# Altium schematic symbol library Microver.SchLib: 988 symbols (part 2 of 17)
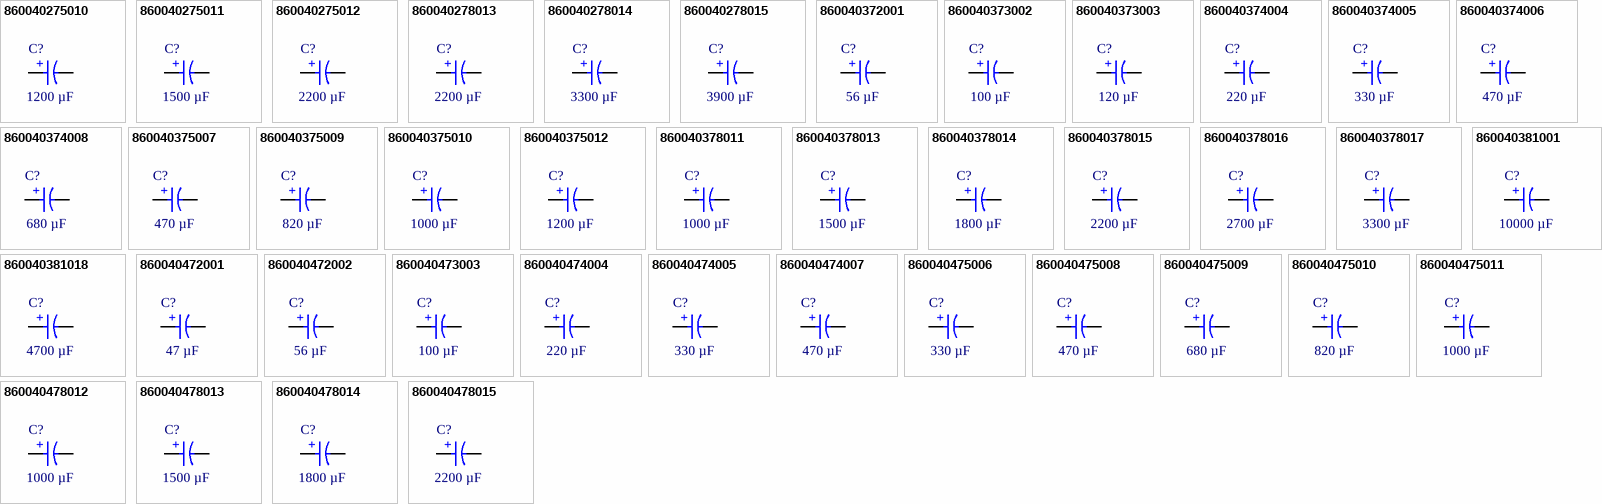
[diagram p30: symbols 860040275010 to 860040478015]

## 860040472001
designator C?, comment 47 µF
WCAP-ATUL Aluminum Electrolytic Capacitor, Radial, THT, D5 x H11 mm, 47 µF, 25 V; Manufacturer Part Number: 860040472001; Manufacturer: Wurth Elektronik; Capacitance Tolerance: 20%; Dissipation Factor: 14%; Endurance: 5000 h; Leakage Current: 11.75 µA; Rated Voltage (DC): 25 V; Ripple Current: 160 mA; Category: Aluminum Electrolytic Capacitors; Match Code: WCAP-ATUL; ComponentLink1Description: Website Link; ComponentLink1URL: https://www.we-online.com/redexpert/article/860040472001?ad; ComponentLink2Description: Datasheet Link; ComponentLink2URL: https://www.we-online.com/redexpert/spec/860040472001?ad; Mount: Through Hole; Min Operating Temperature: -40 °C; Max Operating Temperature: 105 °C; Packaging: Ammo Pack; Height: 11 mm; Diameter: 5 mm; Capacitance: 47 µF
footprint WCAP-ATUL_D5H11
simulation model 860040472001_47uF
pins: 1 P, 2 N
text: +

## 860040472002
designator C?, comment 56 µF
WCAP-ATUL Aluminum Electrolytic Capacitor, Radial, THT, D5 x H11 mm, 56 µF, 25 V; Manufacturer Part Number: 860040472002; Manufacturer: Wurth Elektronik; Capacitance Tolerance: 20%; Dissipation Factor: 14%; Endurance: 5000 h; Leakage Current: 14 µA; Rated Voltage (DC): 25 V; Ripple Current: 240 mA; Category: Aluminum Electrolytic Capacitors; Match Code: WCAP-ATUL; ComponentLink1Description: Website Link; ComponentLink1URL: https://www.we-online.com/redexpert/article/860040472002?ad; ComponentLink2Description: Datasheet Link; ComponentLink2URL: https://www.we-online.com/redexpert/spec/860040472002?ad; Mount: Through Hole; Min Operating Temperature: -40 °C; Max Operating Temperature: 105 °C; Packaging: Ammo Pack; Height: 11 mm; Diameter: 5 mm; Capacitance: 56 µF
footprint WCAP-ATUL_D5H11
simulation model 860040472002_56uF
pins: 1 P, 2 N
text: +

## 860040473003
designator C?, comment 100 µF
WCAP-ATUL Aluminum Electrolytic Capacitor, Radial, THT, D6.3 x H11 mm, 100 µF, 25 V; Manufacturer Part Number: 860040473003; Manufacturer: Wurth Elektronik; Capacitance Tolerance: 20%; Dissipation Factor: 14%; Endurance: 5000 h; Leakage Current: 25 µA; Rated Voltage (DC): 25 V; Ripple Current: 350 mA; Category: Aluminum Electrolytic Capacitors; Match Code: WCAP-ATUL; ComponentLink1Description: Website Link; ComponentLink1URL: https://www.we-online.com/redexpert/article/860040473003?ad; ComponentLink2Description: Datasheet Link; ComponentLink2URL: https://www.we-online.com/redexpert/spec/860040473003?ad; Mount: Through Hole; Min Operating Temperature: -40 °C; Max Operating Temperature: 105 °C; Packaging: Ammo Pack; Height: 11 mm; Diameter: 6.3 mm; Capacitance: 100 µF
footprint WCAP-ATUL_D6.3H11
simulation model 860040473003_100uF
pins: 1 P, 2 N
text: +

## 860040474004
designator C?, comment 220 µF
WCAP-ATUL Aluminum Electrolytic Capacitor, Radial, THT, D8 x H11.5 mm, 220 µF, 25 V; Manufacturer Part Number: 860040474004; Manufacturer: Wurth Elektronik; Capacitance Tolerance: 20%; Dissipation Factor: 14%; Endurance: 7000 h; Leakage Current: 55 µA; Rated Voltage (DC): 25 V; Ripple Current: 590 mA; Category: Aluminum Electrolytic Capacitors; Match Code: WCAP-ATUL; ComponentLink1Description: Website Link; ComponentLink1URL: https://www.we-online.com/redexpert/article/860040474004?ad; ComponentLink2Description: Datasheet Link; ComponentLink2URL: https://www.we-online.com/redexpert/spec/860040474004?ad; Mount: Through Hole; Min Operating Temperature: -40 °C; Max Operating Temperature: 105 °C; Packaging: Ammo Pack; Height: 11.5 mm; Diameter: 8 mm; Capacitance: 220 µF
footprint WCAP-ATUL_D8H11.5
simulation model 860040474004_220uF
pins: 1 P, 2 N
text: +

## 860040474005
designator C?, comment 330 µF
WCAP-ATUL Aluminum Electrolytic Capacitor, Radial, THT, D8 x H16 mm, 330 µF, 25 V; Manufacturer Part Number: 860040474005; Manufacturer: Wurth Elektronik; Capacitance Tolerance: 20%; Dissipation Factor: 14%; Endurance: 7000 h; Leakage Current: 82.5 µA; Rated Voltage (DC): 25 V; Ripple Current: 810 mA; Category: Aluminum Electrolytic Capacitors; Match Code: WCAP-ATUL; ComponentLink1Description: Website Link; ComponentLink1URL: https://www.we-online.com/redexpert/article/860040474005?ad; ComponentLink2Description: Datasheet Link; ComponentLink2URL: https://www.we-online.com/redexpert/spec/860040474005?ad; Mount: Through Hole; Min Operating Temperature: -40 °C; Max Operating Temperature: 105 °C; Packaging: Ammo Pack; Height: 16 mm; Diameter: 8 mm; Capacitance: 330 µF
footprint WCAP-ATUL_D8H16
simulation model 860040474005_330uF
pins: 1 P, 2 N
text: +

## 860040474007
designator C?, comment 470 µF
WCAP-ATUL Aluminum Electrolytic Capacitor, Radial, THT, D8 x H20 mm, 470 µF, 25 V; Manufacturer Part Number: 860040474007; Manufacturer: Wurth Elektronik; Capacitance Tolerance: 20%; Dissipation Factor: 14%; Endurance: 7000 h; Leakage Current: 117.5 µA; Rated Voltage (DC): 25 V; Ripple Current: 1020 mA; Category: Aluminum Electrolytic Capacitors; Match Code: WCAP-ATUL; ComponentLink1Description: Website Link; ComponentLink1URL: https://www.we-online.com/redexpert/article/860040474007?ad; ComponentLink2Description: Datasheet Link; ComponentLink2URL: https://www.we-online.com/redexpert/spec/860040474007?ad; Mount: Through Hole; Min Operating Temperature: -40 °C; Max Operating Temperature: 105 °C; Packaging: Ammo Pack; Height: 20 mm; Diameter: 8 mm; Capacitance: 470 µF
footprint WCAP-ATUL_D8H20
simulation model 860040474007_470uF
pins: 1 P, 2 N
text: +

## 860040475006
designator C?, comment 330 µF
WCAP-ATUL Aluminum Electrolytic Capacitor, Radial, THT, D10 x H12.5 mm, 330 µF, 25 V; Manufacturer Part Number: 860040475006; Manufacturer: Wurth Elektronik; Capacitance Tolerance: 20%; Dissipation Factor: 14%; Endurance: 7000 h; Leakage Current: 82.5 µA; Rated Voltage (DC): 25 V; Ripple Current: 826 mA; Category: Aluminum Electrolytic Capacitors; Match Code: WCAP-ATUL; ComponentLink1Description: Website Link; ComponentLink1URL: https://www.we-online.com/redexpert/article/860040475006?ad; ComponentLink2Description: Datasheet Link; ComponentLink2URL: https://www.we-online.com/redexpert/spec/860040475006?ad; Mount: Through Hole; Min Operating Temperature: -40 °C; Max Operating Temperature: 105 °C; Packaging: Ammo Pack; Height: 12.5 mm; Diameter: 10 mm; Capacitance: 330 µF
footprint WCAP-ATUL_D10H12.5
simulation model 860040475006_330uF
pins: 1 P, 2 N
text: +

## 860040475008
designator C?, comment 470 µF
WCAP-ATUL Aluminum Electrolytic Capacitor, Radial, THT, D10 x H16 mm, 470 µF, 25 V; Manufacturer Part Number: 860040475008; Manufacturer: Wurth Elektronik; Capacitance Tolerance: 20%; Dissipation Factor: 14%; Endurance: 7000 h; Leakage Current: 117.5 µA; Rated Voltage (DC): 25 V; Ripple Current: 1210 mA; Category: Aluminum Electrolytic Capacitors; Match Code: WCAP-ATUL; ComponentLink1Description: Website Link; ComponentLink1URL: https://www.we-online.com/redexpert/article/860040475008?ad; ComponentLink2Description: Datasheet Link; ComponentLink2URL: https://www.we-online.com/redexpert/spec/860040475008?ad; Mount: Through Hole; Min Operating Temperature: -40 °C; Max Operating Temperature: 105 °C; Packaging: Ammo Pack; Height: 16 mm; Diameter: 10 mm; Capacitance: 470 µF
footprint WCAP-ATUL_D10H16
simulation model 860040475008_470uF
pins: 1 P, 2 N
text: +

## 860040475009
designator C?, comment 680 µF
WCAP-ATUL Aluminum Electrolytic Capacitor, Radial, THT, D10 x H20 mm, 680 µF, 25 V; Manufacturer Part Number: 860040475009; Manufacturer: Wurth Elektronik; Capacitance Tolerance: 20%; Dissipation Factor: 14%; Endurance: 7000 h; Leakage Current: 170 µA; Rated Voltage (DC): 25 V; Ripple Current: 1400 mA; Category: Aluminum Electrolytic Capacitors; Match Code: WCAP-ATUL; ComponentLink1Description: Website Link; ComponentLink1URL: https://www.we-online.com/redexpert/article/860040475009?ad; ComponentLink2Description: Datasheet Link; ComponentLink2URL: https://www.we-online.com/redexpert/spec/860040475009?ad; Mount: Through Hole; Min Operating Temperature: -40 °C; Max Operating Temperature: 105 °C; Packaging: Ammo Pack; Height: 20 mm; Diameter: 10 mm; Capacitance: 680 µF
footprint WCAP-ATUL_D10H20
simulation model 860040475009_680uF
pins: 1 P, 2 N
text: +

## 860040475010
designator C?, comment 820 µF
WCAP-ATUL Aluminum Electrolytic Capacitor, Radial, THT, D10 x H25 mm, 820 µF, 25 V; Manufacturer Part Number: 860040475010; Manufacturer: Wurth Elektronik; Capacitance Tolerance: 20%; Dissipation Factor: 14%; Endurance: 7000 h; Leakage Current: 205 µA; Rated Voltage (DC): 25 V; Ripple Current: 1580 mA; Category: Aluminum Electrolytic Capacitors; Match Code: WCAP-ATUL; ComponentLink1Description: Website Link; ComponentLink1URL: https://www.we-online.com/redexpert/article/860040475010?ad; ComponentLink2Description: Datasheet Link; ComponentLink2URL: https://www.we-online.com/redexpert/spec/860040475010?ad; Mount: Through Hole; Min Operating Temperature: -40 °C; Max Operating Temperature: 105 °C; Packaging: Ammo Pack; Height: 25 mm; Diameter: 10 mm; Capacitance: 820 µF
footprint WCAP-ATUL_D10H25
simulation model 860040475010_820uF
pins: 1 P, 2 N
text: +

## 860040475011
designator C?, comment 1000 µF
WCAP-ATUL Aluminum Electrolytic Capacitor, Radial, THT, D10 x H30 mm, 1000 µF, 25 V; Manufacturer Part Number: 860040475011; Manufacturer: Wurth Elektronik; Capacitance Tolerance: 20%; Dissipation Factor: 14%; Endurance: 7000 h; Leakage Current: 250 µA; Rated Voltage (DC): 25 V; Ripple Current: 1820 mA; Category: Aluminum Electrolytic Capacitors; Match Code: WCAP-ATUL; ComponentLink1Description: Website Link; ComponentLink1URL: https://www.we-online.com/redexpert/article/860040475011?ad; ComponentLink2Description: Datasheet Link; ComponentLink2URL: https://www.we-online.com/redexpert/spec/860040475011?ad; Mount: Through Hole; Min Operating Temperature: -40 °C; Max Operating Temperature: 105 °C; Packaging: Ammo Pack; Height: 30 mm; Diameter: 10 mm; Capacitance: 1000 µF
footprint WCAP-ATUL_D10H30
simulation model 860040475011_1mF
pins: 1 P, 2 N
text: +

## 860040478012
designator C?, comment 1000 µF
WCAP-ATUL Aluminum Electrolytic Capacitor, Radial, THT, D13 x H20 mm, 1000 µF, 25 V; Manufacturer Part Number: 860040478012; Manufacturer: Wurth Elektronik; Capacitance Tolerance: 20%; Dissipation Factor: 14%; Endurance: 10000 h; Leakage Current: 250 µA; Rated Voltage (DC): 25 V; Ripple Current: 1800 mA; Category: Aluminum Electrolytic Capacitors; Match Code: WCAP-ATUL; ComponentLink1Description: Website Link; ComponentLink1URL: https://www.we-online.com/redexpert/article/860040478012?ad; ComponentLink2Description: Datasheet Link; ComponentLink2URL: https://www.we-online.com/redexpert/spec/860040478012?ad; Mount: Through Hole; Min Operating Temperature: -40 °C; Max Operating Temperature: 105 °C; Packaging: Ammo Pack; Height: 20 mm; Diameter: 13 mm; Capacitance: 1000 µF
footprint WCAP-ATUL_D13H20
simulation model 860040478012_1mF
pins: 1 P, 2 N
text: +

## 860040478013
designator C?, comment 1500 µF
WCAP-ATUL Aluminum Electrolytic Capacitor, Radial, THT, D13 x H25 mm, 1500 µF, 25 V; Manufacturer Part Number: 860040478013; Manufacturer: Wurth Elektronik; Capacitance Tolerance: 20%; Dissipation Factor: 14%; Endurance: 10000 h; Leakage Current: 375 µA; Rated Voltage (DC): 25 V; Ripple Current: 2240 mA; Category: Aluminum Electrolytic Capacitors; Match Code: WCAP-ATUL; ComponentLink1Description: Website Link; ComponentLink1URL: https://www.we-online.com/redexpert/article/860040478013?ad; ComponentLink2Description: Datasheet Link; ComponentLink2URL: https://www.we-online.com/redexpert/spec/860040478013?ad; Mount: Through Hole; Min Operating Temperature: -40 °C; Max Operating Temperature: 105 °C; Packaging: Ammo Pack; Height: 25 mm; Diameter: 13 mm; Capacitance: 1500 µF
footprint WCAP-ATUL_D13H25
simulation model 860040478013_1.5mF
pins: 1 P, 2 N
text: +

## 860040478014
designator C?, comment 1800 µF
WCAP-ATUL Aluminum Electrolytic Capacitor, Radial, THT, D13 x H30 mm, 1800 µF, 25 V; Manufacturer Part Number: 860040478014; Manufacturer: Wurth Elektronik; Capacitance Tolerance: 20%; Dissipation Factor: 14%; Endurance: 10000 h; Leakage Current: 450 µA; Rated Voltage (DC): 25 V; Ripple Current: 2640 mA; Category: Aluminum Electrolytic Capacitors; Match Code: WCAP-ATUL; ComponentLink1Description: Website Link; ComponentLink1URL: https://www.we-online.com/redexpert/article/860040478014?ad; ComponentLink2Description: Datasheet Link; ComponentLink2URL: https://www.we-online.com/redexpert/spec/860040478014?ad; Mount: Through Hole; Min Operating Temperature: -40 °C; Max Operating Temperature: 105 °C; Packaging: Ammo Pack; Height: 30 mm; Diameter: 13 mm; Capacitance: 1800 µF
footprint WCAP-ATUL_D13H30
simulation model 860040478014_1.8mF
pins: 1 P, 2 N
text: +

## 860040478015
designator C?, comment 2200 µF
WCAP-ATUL Aluminum Electrolytic Capacitor, Radial, THT, D13 x H35 mm, 2200 µF, 25 V; Manufacturer Part Number: 860040478015; Manufacturer: Wurth Elektronik; Capacitance Tolerance: 20%; Dissipation Factor: 14%; Endurance: 10000 h; Leakage Current: 550 µA; Rated Voltage (DC): 25 V; Ripple Current: 2880 mA; Category: Aluminum Electrolytic Capacitors; Match Code: WCAP-ATUL; ComponentLink1Description: Website Link; ComponentLink1URL: https://www.we-online.com/redexpert/article/860040478015?ad; ComponentLink2Description: Datasheet Link; ComponentLink2URL: https://www.we-online.com/redexpert/spec/860040478015?ad; Mount: Through Hole; Min Operating Temperature: -40 °C; Max Operating Temperature: 105 °C; Packaging: Ammo Pack; Height: 35 mm; Diameter: 13 mm; Capacitance: 2200 µF
footprint WCAP-ATUL_D13H35
simulation model 860040478015_2.2mF
pins: 1 P, 2 N
text: +

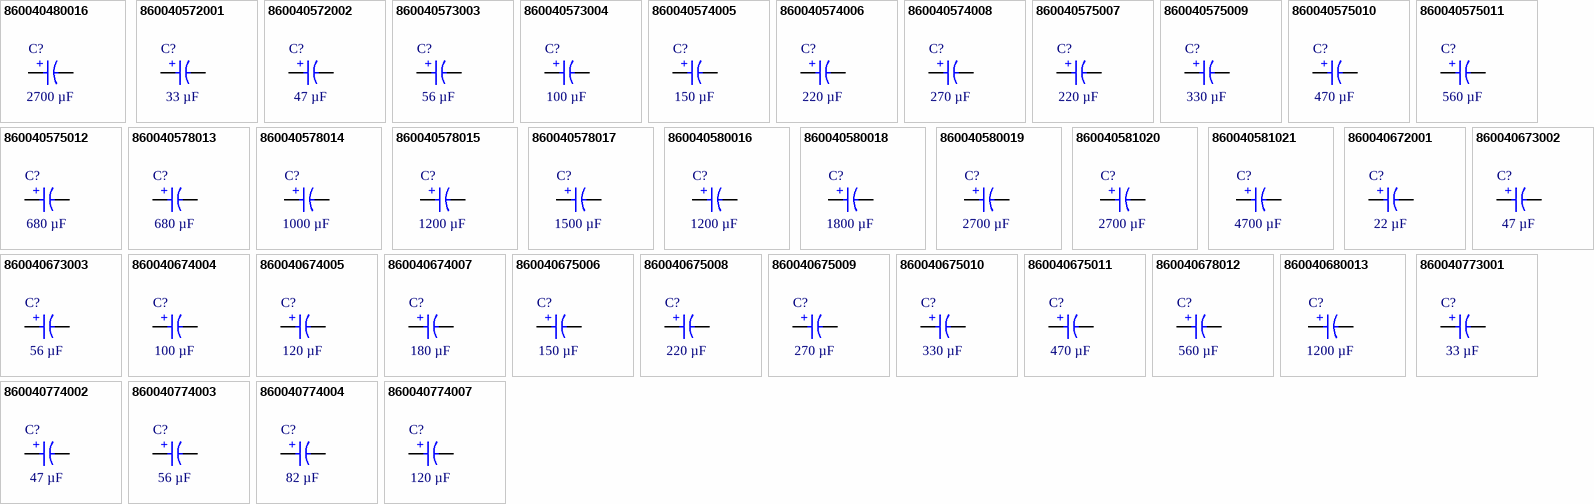
[diagram p2: symbols 860040480016 to 860040774007]

## 860040480016
designator C?, comment 2700 µF
WCAP-ATUL Aluminum Electrolytic Capacitor, Radial, THT, D16 x H25 mm, 2700 µF, 25 V; Manufacturer Part Number: 860040480016; Manufacturer: Wurth Elektronik; Capacitance Tolerance: 20%; Dissipation Factor: 14%; Endurance: 10000 h; Leakage Current: 675 µA; Rated Voltage (DC): 25 V; Ripple Current: 2820 mA; Category: Aluminum Electrolytic Capacitors; Match Code: WCAP-ATUL; ComponentLink1Description: Website Link; ComponentLink1URL: https://www.we-online.com/redexpert/article/860040480016?ad; ComponentLink2Description: Datasheet Link; ComponentLink2URL: https://www.we-online.com/redexpert/spec/860040480016?ad; Mount: Through Hole; Min Operating Temperature: -40 °C; Max Operating Temperature: 105 °C; Packaging: Ammo Pack; Height: 25 mm; Diameter: 16 mm; Capacitance: 2700 µF
footprint WCAP-ATUL_D16H25
simulation model 860040480016_2.7mF
pins: 1 P, 2 N
text: +

## 860040572001
designator C?, comment 33 µF
WCAP-ATUL Aluminum Electrolytic Capacitor, Radial, THT, D5 x H11 mm, 33 µF, 35 V; Manufacturer Part Number: 860040572001; Manufacturer: Wurth Elektronik; Capacitance Tolerance: 20%; Dissipation Factor: 12%; Endurance: 5000 h; Leakage Current: 11.55 µA; Rated Voltage (DC): 35 V; Ripple Current: 230 mA; Category: Aluminum Electrolytic Capacitors; Match Code: WCAP-ATUL; ComponentLink1Description: Website Link; ComponentLink1URL: https://www.we-online.com/redexpert/article/860040572001?ad; ComponentLink2Description: Datasheet Link; ComponentLink2URL: https://www.we-online.com/redexpert/spec/860040572001?ad; Mount: Through Hole; Min Operating Temperature: -40 °C; Max Operating Temperature: 105 °C; Packaging: Ammo Pack; Height: 11 mm; Diameter: 5 mm; Capacitance: 33 µF
footprint WCAP-ATUL_D5H11
simulation model 860040572001_33uF
pins: 1 P, 2 N
text: +

## 860040572002
designator C?, comment 47 µF
WCAP-ATUL Aluminum Electrolytic Capacitor, Radial, THT, D5 x H11 mm, 47 µF, 35 V; Manufacturer Part Number: 860040572002; Manufacturer: Wurth Elektronik; Capacitance Tolerance: 20%; Dissipation Factor: 12%; Endurance: 5000 h; Leakage Current: 16.45 µA; Rated Voltage (DC): 35 V; Ripple Current: 280 mA; Category: Aluminum Electrolytic Capacitors; Match Code: WCAP-ATUL; ComponentLink1Description: Website Link; ComponentLink1URL: https://www.we-online.com/redexpert/article/860040572002?ad; ComponentLink2Description: Datasheet Link; ComponentLink2URL: https://www.we-online.com/redexpert/spec/860040572002?ad; Mount: Through Hole; Min Operating Temperature: -40 °C; Max Operating Temperature: 105 °C; Packaging: Ammo Pack; Height: 11 mm; Diameter: 5 mm; Capacitance: 47 µF
footprint WCAP-ATUL_D5H11
simulation model 860040572002_47uF
pins: 1 P, 2 N
text: +

## 860040573003
designator C?, comment 56 µF
WCAP-ATUL Aluminum Electrolytic Capacitor, Radial, THT, D6.3 x H11 mm, 56 µF, 35 V; Manufacturer Part Number: 860040573003; Manufacturer: Wurth Elektronik; Capacitance Tolerance: 20%; Dissipation Factor: 12%; Endurance: 5000 h; Leakage Current: 19.6 µA; Rated Voltage (DC): 35 V; Ripple Current: 360 mA; Category: Aluminum Electrolytic Capacitors; Match Code: WCAP-ATUL; ComponentLink1Description: Website Link; ComponentLink1URL: https://www.we-online.com/redexpert/article/860040573003?ad; ComponentLink2Description: Datasheet Link; ComponentLink2URL: https://www.we-online.com/redexpert/spec/860040573003?ad; Mount: Through Hole; Min Operating Temperature: -40 °C; Max Operating Temperature: 105 °C; Packaging: Ammo Pack; Height: 11 mm; Diameter: 6.3 mm; Capacitance: 56 µF
footprint WCAP-ATUL_D6.3H11
simulation model 860040573003_56uF
pins: 1 P, 2 N
text: +

## 860040573004
designator C?, comment 100 µF
WCAP-ATUL Aluminum Electrolytic Capacitor, Radial, THT, D6.3 x H11 mm, 100 µF, 35 V; Manufacturer Part Number: 860040573004; Manufacturer: Wurth Elektronik; Capacitance Tolerance: 20%; Dissipation Factor: 12%; Endurance: 5000 h; Leakage Current: 35 µA; Rated Voltage (DC): 35 V; Ripple Current: 450 mA; Category: Aluminum Electrolytic Capacitors; Match Code: WCAP-ATUL; ComponentLink1Description: Website Link; ComponentLink1URL: https://www.we-online.com/redexpert/article/860040573004?ad; ComponentLink2Description: Datasheet Link; ComponentLink2URL: https://www.we-online.com/redexpert/spec/860040573004?ad; Mount: Through Hole; Min Operating Temperature: -40 °C; Max Operating Temperature: 105 °C; Packaging: Ammo Pack; Height: 11 mm; Diameter: 6.3 mm; Capacitance: 100 µF
footprint WCAP-ATUL_D6.3H11
simulation model 860040573004_100uF
pins: 1 P, 2 N
text: +

## 860040574005
designator C?, comment 150 µF
WCAP-ATUL Aluminum Electrolytic Capacitor, Radial, THT, D8 x H11.5 mm, 150 µF, 35 V; Manufacturer Part Number: 860040574005; Manufacturer: Wurth Elektronik; Capacitance Tolerance: 20%; Dissipation Factor: 12%; Endurance: 7000 h; Leakage Current: 52.5 µA; Rated Voltage (DC): 35 V; Ripple Current: 680 mA; Category: Aluminum Electrolytic Capacitors; Match Code: WCAP-ATUL; ComponentLink1Description: Website Link; ComponentLink1URL: https://www.we-online.com/redexpert/article/860040574005?ad; ComponentLink2Description: Datasheet Link; ComponentLink2URL: https://www.we-online.com/redexpert/spec/860040574005?ad; Mount: Through Hole; Min Operating Temperature: -40 °C; Max Operating Temperature: 105 °C; Packaging: Ammo Pack; Height: 11.5 mm; Diameter: 8 mm; Capacitance: 150 µF
footprint WCAP-ATUL_D8H11.5
simulation model 860040574005_150uF
pins: 1 P, 2 N
text: +

## 860040574006
designator C?, comment 220 µF
WCAP-ATUL Aluminum Electrolytic Capacitor, Radial, THT, D8 x H16 mm, 220 µF, 35 V; Manufacturer Part Number: 860040574006; Manufacturer: Wurth Elektronik; Capacitance Tolerance: 20%; Dissipation Factor: 12%; Endurance: 7000 h; Leakage Current: 77 µA; Rated Voltage (DC): 35 V; Ripple Current: 1000 mA; Category: Aluminum Electrolytic Capacitors; Match Code: WCAP-ATUL; ComponentLink1Description: Website Link; ComponentLink1URL: https://www.we-online.com/redexpert/article/860040574006?ad; ComponentLink2Description: Datasheet Link; ComponentLink2URL: https://www.we-online.com/redexpert/spec/860040574006?ad; Mount: Through Hole; Min Operating Temperature: -40 °C; Max Operating Temperature: 105 °C; Packaging: Ammo Pack; Height: 16 mm; Diameter: 8 mm; Capacitance: 220 µF
footprint WCAP-ATUL_D8H16
simulation model 860040574006_220uF
pins: 1 P, 2 N
text: +

## 860040574008
designator C?, comment 270 µF
WCAP-ATUL Aluminum Electrolytic Capacitor, Radial, THT, D8 x H20 mm, 270 µF, 35 V; Manufacturer Part Number: 860040574008; Manufacturer: Wurth Elektronik; Capacitance Tolerance: 20%; Dissipation Factor: 12%; Endurance: 7000 h; Leakage Current: 94.5 µA; Rated Voltage (DC): 35 V; Ripple Current: 1180 mA; Category: Aluminum Electrolytic Capacitors; Match Code: WCAP-ATUL; ComponentLink1Description: Website Link; ComponentLink1URL: https://www.we-online.com/redexpert/article/860040574008?ad; ComponentLink2Description: Datasheet Link; ComponentLink2URL: https://www.we-online.com/redexpert/spec/860040574008?ad; Mount: Through Hole; Min Operating Temperature: -40 °C; Max Operating Temperature: 105 °C; Packaging: Ammo Pack; Height: 20 mm; Diameter: 8 mm; Capacitance: 270 µF
footprint WCAP-ATUL_D8H20
simulation model 860040574008_270uF
pins: 1 P, 2 N
text: +

## 860040575007
designator C?, comment 220 µF
WCAP-ATUL Aluminum Electrolytic Capacitor, Radial, THT, D10 x H12.5 mm, 220 µF, 35 V; Manufacturer Part Number: 860040575007; Manufacturer: Wurth Elektronik; Capacitance Tolerance: 20%; Dissipation Factor: 12%; Endurance: 7000 h; Leakage Current: 77 µA; Rated Voltage (DC): 35 V; Ripple Current: 1060 mA; Category: Aluminum Electrolytic Capacitors; Match Code: WCAP-ATUL; ComponentLink1Description: Website Link; ComponentLink1URL: https://www.we-online.com/redexpert/article/860040575007?ad; ComponentLink2Description: Datasheet Link; ComponentLink2URL: https://www.we-online.com/redexpert/spec/860040575007?ad; Mount: Through Hole; Min Operating Temperature: -40 °C; Max Operating Temperature: 105 °C; Packaging: Ammo Pack; Height: 12.5 mm; Diameter: 10 mm; Capacitance: 220 µF
footprint WCAP-ATUL_D10H12.5
simulation model 860040575007_220uF
pins: 1 P, 2 N
text: +

## 860040575009
designator C?, comment 330 µF
WCAP-ATUL Aluminum Electrolytic Capacitor, Radial, THT, D10 x H16 mm, 330 µF, 35 V; Manufacturer Part Number: 860040575009; Manufacturer: Wurth Elektronik; Capacitance Tolerance: 20%; Dissipation Factor: 12%; Endurance: 7000 h; Leakage Current: 115.5 µA; Rated Voltage (DC): 35 V; Ripple Current: 1380 mA; Category: Aluminum Electrolytic Capacitors; Match Code: WCAP-ATUL; ComponentLink1Description: Website Link; ComponentLink1URL: https://www.we-online.com/redexpert/article/860040575009?ad; ComponentLink2Description: Datasheet Link; ComponentLink2URL: https://www.we-online.com/redexpert/spec/860040575009?ad; Mount: Through Hole; Min Operating Temperature: -40 °C; Max Operating Temperature: 105 °C; Packaging: Ammo Pack; Height: 16 mm; Diameter: 10 mm; Capacitance: 330 µF
footprint WCAP-ATUL_D10H16
simulation model 860040575009_330uF
pins: 1 P, 2 N
text: +

## 860040575010
designator C?, comment 470 µF
WCAP-ATUL Aluminum Electrolytic Capacitor, Radial, THT, D10 x H20 mm, 470 µF, 35 V; Manufacturer Part Number: 860040575010; Manufacturer: Wurth Elektronik; Capacitance Tolerance: 20%; Dissipation Factor: 12%; Endurance: 7000 h; Leakage Current: 164.5 µA; Rated Voltage (DC): 35 V; Ripple Current: 1800 mA; Category: Aluminum Electrolytic Capacitors; Match Code: WCAP-ATUL; ComponentLink1Description: Website Link; ComponentLink1URL: https://www.we-online.com/redexpert/article/860040575010?ad; ComponentLink2Description: Datasheet Link; ComponentLink2URL: https://www.we-online.com/redexpert/spec/860040575010?ad; Mount: Through Hole; Min Operating Temperature: -40 °C; Max Operating Temperature: 105 °C; Packaging: Ammo Pack; Height: 20 mm; Diameter: 10 mm; Capacitance: 470 µF
footprint WCAP-ATUL_D10H20
simulation model 860040575010_470uF
pins: 1 P, 2 N
text: +

## 860040575011
designator C?, comment 560 µF
WCAP-ATUL Aluminum Electrolytic Capacitor, Radial, THT, D10 x H25 mm, 560 µF, 35 V; Manufacturer Part Number: 860040575011; Manufacturer: Wurth Elektronik; Capacitance Tolerance: 20%; Dissipation Factor: 12%; Endurance: 7000 h; Leakage Current: 196 µA; Rated Voltage (DC): 35 V; Ripple Current: 1900 mA; Category: Aluminum Electrolytic Capacitors; Match Code: WCAP-ATUL; ComponentLink1Description: Website Link; ComponentLink1URL: https://www.we-online.com/redexpert/article/860040575011?ad; ComponentLink2Description: Datasheet Link; ComponentLink2URL: https://www.we-online.com/redexpert/spec/860040575011?ad; Mount: Through Hole; Min Operating Temperature: -40 °C; Max Operating Temperature: 105 °C; Packaging: Ammo Pack; Height: 25 mm; Diameter: 10 mm; Capacitance: 560 µF
footprint WCAP-ATUL_D10H25
simulation model 860040575011_560uF
pins: 1 P, 2 N
text: +

## 860040575012
designator C?, comment 680 µF
WCAP-ATUL Aluminum Electrolytic Capacitor, Radial, THT, D10 x H30 mm, 680 µF, 35 V; Manufacturer Part Number: 860040575012; Manufacturer: Wurth Elektronik; Capacitance Tolerance: 20%; Dissipation Factor: 12%; Endurance: 7000 h; Leakage Current: 238 µA; Rated Voltage (DC): 35 V; Ripple Current: 2000 mA; Category: Aluminum Electrolytic Capacitors; Match Code: WCAP-ATUL; ComponentLink1Description: Website Link; ComponentLink1URL: https://www.we-online.com/redexpert/article/860040575012?ad; ComponentLink2Description: Datasheet Link; ComponentLink2URL: https://www.we-online.com/redexpert/spec/860040575012?ad; Mount: Through Hole; Min Operating Temperature: -40 °C; Max Operating Temperature: 105 °C; Packaging: Ammo Pack; Height: 30 mm; Diameter: 10 mm; Capacitance: 680 µF
footprint WCAP-ATUL_D10H30
simulation model 860040575012_680uF
pins: 1 P, 2 N
text: +

## 860040578013
designator C?, comment 680 µF
WCAP-ATUL Aluminum Electrolytic Capacitor, Radial, THT, D13 x H20 mm, 680 µF, 35 V; Manufacturer Part Number: 860040578013; Manufacturer: Wurth Elektronik; Capacitance Tolerance: 20%; Dissipation Factor: 12%; Endurance: 10000 h; Leakage Current: 238 µA; Rated Voltage (DC): 35 V; Ripple Current: 2100 mA; Category: Aluminum Electrolytic Capacitors; Match Code: WCAP-ATUL; ComponentLink1Description: Website Link; ComponentLink1URL: https://www.we-online.com/redexpert/article/860040578013?ad; ComponentLink2Description: Datasheet Link; ComponentLink2URL: https://www.we-online.com/redexpert/spec/860040578013?ad; Mount: Through Hole; Min Operating Temperature: -40 °C; Max Operating Temperature: 105 °C; Packaging: Ammo Pack; Height: 20 mm; Diameter: 13 mm; Capacitance: 680 µF
footprint WCAP-ATUL_D13H20
simulation model 860040578013_680uF
pins: 1 P, 2 N
text: +

## 860040578014
designator C?, comment 1000 µF
WCAP-ATUL Aluminum Electrolytic Capacitor, Radial, THT, D13 x H25 mm, 1000 µF, 35 V; Manufacturer Part Number: 860040578014; Manufacturer: Wurth Elektronik; Capacitance Tolerance: 20%; Dissipation Factor: 12%; Endurance: 10000 h; Leakage Current: 350 µA; Rated Voltage (DC): 35 V; Ripple Current: 2400 mA; Category: Aluminum Electrolytic Capacitors; Match Code: WCAP-ATUL; ComponentLink1Description: Website Link; ComponentLink1URL: https://www.we-online.com/redexpert/article/860040578014?ad; ComponentLink2Description: Datasheet Link; ComponentLink2URL: https://www.we-online.com/redexpert/spec/860040578014?ad; Mount: Through Hole; Min Operating Temperature: -40 °C; Max Operating Temperature: 105 °C; Packaging: Ammo Pack; Height: 25 mm; Diameter: 13 mm; Capacitance: 1000 µF
footprint WCAP-ATUL_D13H25
simulation model 860040578014_1mF
pins: 1 P, 2 N
text: +

## 860040578015
designator C?, comment 1200 µF
WCAP-ATUL Aluminum Electrolytic Capacitor, Radial, THT, D13 x H30 mm, 1200 µF, 35 V; Manufacturer Part Number: 860040578015; Manufacturer: Wurth Elektronik; Capacitance Tolerance: 20%; Dissipation Factor: 12%; Endurance: 10000 h; Leakage Current: 420 µA; Rated Voltage (DC): 35 V; Ripple Current: 2800 mA; Category: Aluminum Electrolytic Capacitors; Match Code: WCAP-ATUL; ComponentLink1Description: Website Link; ComponentLink1URL: https://www.we-online.com/redexpert/article/860040578015?ad; ComponentLink2Description: Datasheet Link; ComponentLink2URL: https://www.we-online.com/redexpert/spec/860040578015?ad; Mount: Through Hole; Min Operating Temperature: -40 °C; Max Operating Temperature: 105 °C; Packaging: Ammo Pack; Height: 30 mm; Diameter: 13 mm; Capacitance: 1200 µF
footprint WCAP-ATUL_D13H30
simulation model 860040578015_1.2mF
pins: 1 P, 2 N
text: +

## 860040578017
designator C?, comment 1500 µF
WCAP-ATUL Aluminum Electrolytic Capacitor, Radial, THT, D13 x H35 mm, 1500 µF, 35 V; Manufacturer Part Number: 860040578017; Manufacturer: Wurth Elektronik; Capacitance Tolerance: 20%; Dissipation Factor: 12%; Endurance: 10000 h; Leakage Current: 525 µA; Rated Voltage (DC): 35 V; Ripple Current: 3000 mA; Category: Aluminum Electrolytic Capacitors; Match Code: WCAP-ATUL; ComponentLink1Description: Website Link; ComponentLink1URL: https://www.we-online.com/redexpert/article/860040578017?ad; ComponentLink2Description: Datasheet Link; ComponentLink2URL: https://www.we-online.com/redexpert/spec/860040578017?ad; Mount: Through Hole; Min Operating Temperature: -40 °C; Max Operating Temperature: 105 °C; Packaging: Ammo Pack; Height: 35 mm; Diameter: 13 mm; Capacitance: 1500 µF
footprint WCAP-ATUL_D13H35
simulation model 860040578017_1.5mF
pins: 1 P, 2 N
text: +

## 860040580016
designator C?, comment 1200 µF
WCAP-ATUL Aluminum Electrolytic Capacitor, Radial, THT, D16 x H21 mm, 1200 µF, 35 V; Manufacturer Part Number: 860040580016; Manufacturer: Wurth Elektronik; Capacitance Tolerance: 20%; Dissipation Factor: 12%; Endurance: 10000 h; Leakage Current: 420 µA; Rated Voltage (DC): 35 V; Ripple Current: 2800 mA; Category: Aluminum Electrolytic Capacitors; Match Code: WCAP-ATUL; ComponentLink1Description: Website Link; ComponentLink1URL: https://www.we-online.com/redexpert/article/860040580016?ad; ComponentLink2Description: Datasheet Link; ComponentLink2URL: https://www.we-online.com/redexpert/spec/860040580016?ad; Mount: Through Hole; Min Operating Temperature: -40 °C; Max Operating Temperature: 105 °C; Packaging: Ammo Pack; Height: 21 mm; Diameter: 16 mm; Capacitance: 1200 µF
footprint WCAP-ATUL_D16H21
simulation model 860040580016_1.2mF
pins: 1 P, 2 N
text: +

## 860040580018
designator C?, comment 1800 µF
WCAP-ATUL Aluminum Electrolytic Capacitor, Radial, THT, D16 x H25 mm, 1800 µF, 35 V; Manufacturer Part Number: 860040580018; Manufacturer: Wurth Elektronik; Capacitance Tolerance: 20%; Dissipation Factor: 12%; Endurance: 10000 h; Leakage Current: 630 µA; Rated Voltage (DC): 35 V; Ripple Current: 2800 mA; Category: Aluminum Electrolytic Capacitors; Match Code: WCAP-ATUL; ComponentLink1Description: Website Link; ComponentLink1URL: https://www.we-online.com/redexpert/article/860040580018?ad; ComponentLink2Description: Datasheet Link; ComponentLink2URL: https://www.we-online.com/redexpert/spec/860040580018?ad; Mount: Through Hole; Min Operating Temperature: -40 °C; Max Operating Temperature: 105 °C; Packaging: Ammo Pack; Height: 25 mm; Diameter: 16 mm; Capacitance: 1800 µF
footprint WCAP-ATUL_D16H25
simulation model 860040580018_1.8mF
pins: 1 P, 2 N
text: +

## 860040580019
designator C?, comment 2700 µF
WCAP-ATUL Aluminum Electrolytic Capacitor, Radial, THT, D16 x H35.5 mm, 2700 µF, 35 V; Manufacturer Part Number: 860040580019; Manufacturer: Wurth Elektronik; Capacitance Tolerance: 20%; Dissipation Factor: 12%; Endurance: 10000 h; Leakage Current: 945 µA; Rated Voltage (DC): 35 V; Ripple Current: 3500 mA; Category: Aluminum Electrolytic Capacitors; Match Code: WCAP-ATUL; ComponentLink1Description: Website Link; ComponentLink1URL: https://www.we-online.com/redexpert/article/860040580019?ad; ComponentLink2Description: Datasheet Link; ComponentLink2URL: https://www.we-online.com/redexpert/spec/860040580019?ad; Mount: Through Hole; Min Operating Temperature: -40 °C; Max Operating Temperature: 105 °C; Packaging: Ammo Pack; Height: 35.5 mm; Diameter: 16 mm; Capacitance: 2700 µF
footprint WCAP-ATUL_D16H35.5
simulation model 860040580019_2.7mF
pins: 1 P, 2 N
text: +

## 860040581020
designator C?, comment 2700 µF
WCAP-ATUL Aluminum Electrolytic Capacitor, Radial, THT, D18 x H31.5 mm, 2700 µF, 35 V; Manufacturer Part Number: 860040581020; Manufacturer: Wurth Elektronik; Capacitance Tolerance: 20%; Dissipation Factor: 12%; Endurance: 10000 h; Leakage Current: 945 µA; Rated Voltage (DC): 35 V; Ripple Current: 3850 mA; Category: Aluminum Electrolytic Capacitors; Match Code: WCAP-ATUL; ComponentLink1Description: Website Link; ComponentLink1URL: https://www.we-online.com/redexpert/article/860040581020?ad; ComponentLink2Description: Datasheet Link; ComponentLink2URL: https://www.we-online.com/redexpert/spec/860040581020?ad; Mount: Through Hole; Min Operating Temperature: -40 °C; Max Operating Temperature: 105 °C; Packaging: Ammo Pack; Height: 31.5 mm; Diameter: 18 mm; Capacitance: 2700 µF
footprint WCAP-ATUL_D18H31.5
simulation model 860040581020_2.7mF
pins: 1 P, 2 N
text: +

## 860040581021
designator C?, comment 4700 µF
WCAP-ATUL Aluminum Electrolytic Capacitor, Radial, THT, D18 x H41 mm, 4700 µF, 35 V; Manufacturer Part Number: 860040581021; Manufacturer: Wurth Elektronik; Capacitance Tolerance: 20%; Dissipation Factor: 18%; Endurance: 10000 h; Leakage Current: 1645 µA; Rated Voltage (DC): 35 V; Ripple Current: 5350 mA; Category: Aluminum Electrolytic Capacitors; Match Code: WCAP-ATUL; ComponentLink1Description: Website Link; ComponentLink1URL: https://www.we-online.com/redexpert/article/860040581021?ad; ComponentLink2Description: Datasheet Link; ComponentLink2URL: https://www.we-online.com/redexpert/spec/860040581021?ad; Mount: Through Hole; Min Operating Temperature: -40 °C; Max Operating Temperature: 105 °C; Packaging: Ammo Pack; Height: 41 mm; Diameter: 18 mm; Capacitance: 4700 µF
footprint WCAP-ATUL_D18H41
simulation model 860040581021_4.7mF
pins: 1 P, 2 N
text: +

## 860040672001
designator C?, comment 22 µF
WCAP-ATUL Aluminum Electrolytic Capacitor, Radial, THT, D5 x H11 mm, 22 µF, 50 V; Manufacturer Part Number: 860040672001; Manufacturer: Wurth Elektronik; Capacitance Tolerance: 20%; Dissipation Factor: 10%; Endurance: 5000 h; Leakage Current: 11 µA; Rated Voltage (DC): 50 V; Ripple Current: 220 mA; Category: Aluminum Electrolytic Capacitors; Match Code: WCAP-ATUL; ComponentLink1Description: Website Link; ComponentLink1URL: https://www.we-online.com/redexpert/article/860040672001?ad; ComponentLink2Description: Datasheet Link; ComponentLink2URL: https://www.we-online.com/redexpert/spec/860040672001?ad; Mount: Through Hole; Min Operating Temperature: -40 °C; Max Operating Temperature: 105 °C; Packaging: Ammo Pack; Height: 11 mm; Diameter: 5 mm; Capacitance: 22 µF
footprint WCAP-ATUL_D5H11
simulation model 860040672001_22uF
pins: 1 P, 2 N
text: +

## 860040673002
designator C?, comment 47 µF
WCAP-ATUL Aluminum Electrolytic Capacitor, Radial, THT, D6.3 x H11 mm, 47 µF, 50 V; Manufacturer Part Number: 860040673002; Manufacturer: Wurth Elektronik; Capacitance Tolerance: 20%; Dissipation Factor: 10%; Endurance: 5000 h; Leakage Current: 23.5 µA; Rated Voltage (DC): 50 V; Ripple Current: 260 mA; Category: Aluminum Electrolytic Capacitors; Match Code: WCAP-ATUL; ComponentLink1Description: Website Link; ComponentLink1URL: https://www.we-online.com/redexpert/article/860040673002?ad; ComponentLink2Description: Datasheet Link; ComponentLink2URL: https://www.we-online.com/redexpert/spec/860040673002?ad; Mount: Through Hole; Min Operating Temperature: -40 °C; Max Operating Temperature: 105 °C; Packaging: Ammo Pack; Height: 11 mm; Diameter: 6.3 mm; Capacitance: 47 µF
footprint WCAP-ATUL_D6.3H11
simulation model 860040673002_47uF
pins: 1 P, 2 N
text: +

## 860040673003
designator C?, comment 56 µF
WCAP-ATUL Aluminum Electrolytic Capacitor, Radial, THT, D6.3 x H11 mm, 56 µF, 50 V; Manufacturer Part Number: 860040673003; Manufacturer: Wurth Elektronik; Capacitance Tolerance: 20%; Dissipation Factor: 10%; Endurance: 5000 h; Leakage Current: 28 µA; Rated Voltage (DC): 50 V; Ripple Current: 300 mA; Category: Aluminum Electrolytic Capacitors; Match Code: WCAP-ATUL; ComponentLink1Description: Website Link; ComponentLink1URL: https://www.we-online.com/redexpert/article/860040673003?ad; ComponentLink2Description: Datasheet Link; ComponentLink2URL: https://www.we-online.com/redexpert/spec/860040673003?ad; Mount: Through Hole; Min Operating Temperature: -40 °C; Max Operating Temperature: 105 °C; Packaging: Ammo Pack; Height: 11 mm; Diameter: 6.3 mm; Capacitance: 56 µF
footprint WCAP-ATUL_D6.3H11
simulation model 860040673003_56uF
pins: 1 P, 2 N
text: +

## 860040674004
designator C?, comment 100 µF
WCAP-ATUL Aluminum Electrolytic Capacitor, Radial, THT, D8 x H11.5 mm, 100 µF, 50 V; Manufacturer Part Number: 860040674004; Manufacturer: Wurth Elektronik; Capacitance Tolerance: 20%; Dissipation Factor: 10%; Endurance: 7000 h; Leakage Current: 50 µA; Rated Voltage (DC): 50 V; Ripple Current: 680 mA; Category: Aluminum Electrolytic Capacitors; Match Code: WCAP-ATUL; ComponentLink1Description: Website Link; ComponentLink1URL: https://www.we-online.com/redexpert/article/860040674004?ad; ComponentLink2Description: Datasheet Link; ComponentLink2URL: https://www.we-online.com/redexpert/spec/860040674004?ad; Mount: Through Hole; Min Operating Temperature: -40 °C; Max Operating Temperature: 105 °C; Packaging: Ammo Pack; Height: 11.5 mm; Diameter: 8 mm; Capacitance: 100 µF
footprint WCAP-ATUL_D8H11.5
simulation model 860040674004_100uF
pins: 1 P, 2 N
text: +

## 860040674005
designator C?, comment 120 µF
WCAP-ATUL Aluminum Electrolytic Capacitor, Radial, THT, D8 x H16 mm, 120 µF, 50 V; Manufacturer Part Number: 860040674005; Manufacturer: Wurth Elektronik; Capacitance Tolerance: 20%; Dissipation Factor: 10%; Endurance: 7000 h; Leakage Current: 60 µA; Rated Voltage (DC): 50 V; Ripple Current: 760 mA; Category: Aluminum Electrolytic Capacitors; Match Code: WCAP-ATUL; ComponentLink1Description: Website Link; ComponentLink1URL: https://www.we-online.com/redexpert/article/860040674005?ad; ComponentLink2Description: Datasheet Link; ComponentLink2URL: https://www.we-online.com/redexpert/spec/860040674005?ad; Mount: Through Hole; Min Operating Temperature: -40 °C; Max Operating Temperature: 105 °C; Packaging: Ammo Pack; Height: 16 mm; Diameter: 8 mm; Capacitance: 120 µF
footprint WCAP-ATUL_D8H16
simulation model 860040674005_120uF
pins: 1 P, 2 N
text: +

## 860040674007
designator C?, comment 180 µF
WCAP-ATUL Aluminum Electrolytic Capacitor, Radial, THT, D8 x H20 mm, 180 µF, 50 V; Manufacturer Part Number: 860040674007; Manufacturer: Wurth Elektronik; Capacitance Tolerance: 20%; Dissipation Factor: 10%; Endurance: 7000 h; Leakage Current: 90 µA; Rated Voltage (DC): 50 V; Ripple Current: 1000 mA; Category: Aluminum Electrolytic Capacitors; Match Code: WCAP-ATUL; ComponentLink1Description: Website Link; ComponentLink1URL: https://www.we-online.com/redexpert/article/860040674007?ad; ComponentLink2Description: Datasheet Link; ComponentLink2URL: https://www.we-online.com/redexpert/spec/860040674007?ad; Mount: Through Hole; Min Operating Temperature: -40 °C; Max Operating Temperature: 105 °C; Packaging: Ammo Pack; Height: 20 mm; Diameter: 8 mm; Capacitance: 180 µF
footprint WCAP-ATUL_D8H20
simulation model 860040674007_180uF
pins: 1 P, 2 N
text: +

## 860040675006
designator C?, comment 150 µF
WCAP-ATUL Aluminum Electrolytic Capacitor, Radial, THT, D10 x H12.5 mm, 150 µF, 50 V; Manufacturer Part Number: 860040675006; Manufacturer: Wurth Elektronik; Capacitance Tolerance: 20%; Dissipation Factor: 10%; Endurance: 7000 h; Leakage Current: 75 µA; Rated Voltage (DC): 50 V; Ripple Current: 800 mA; Category: Aluminum Electrolytic Capacitors; Match Code: WCAP-ATUL; ComponentLink1Description: Website Link; ComponentLink1URL: https://www.we-online.com/redexpert/article/860040675006?ad; ComponentLink2Description: Datasheet Link; ComponentLink2URL: https://www.we-online.com/redexpert/spec/860040675006?ad; Mount: Through Hole; Min Operating Temperature: -40 °C; Max Operating Temperature: 105 °C; Packaging: Ammo Pack; Height: 12.5 mm; Diameter: 10 mm; Capacitance: 150 µF
footprint WCAP-ATUL_D10H12.5
simulation model 860040675006_150uF
pins: 1 P, 2 N
text: +

## 860040675008
designator C?, comment 220 µF
WCAP-ATUL Aluminum Electrolytic Capacitor, Radial, THT, D10 x H16 mm, 220 µF, 50 V; Manufacturer Part Number: 860040675008; Manufacturer: Wurth Elektronik; Capacitance Tolerance: 20%; Dissipation Factor: 10%; Endurance: 7000 h; Leakage Current: 110 µA; Rated Voltage (DC): 50 V; Ripple Current: 1300 mA; Category: Aluminum Electrolytic Capacitors; Match Code: WCAP-ATUL; ComponentLink1Description: Website Link; ComponentLink1URL: https://www.we-online.com/redexpert/article/860040675008?ad; ComponentLink2Description: Datasheet Link; ComponentLink2URL: https://www.we-online.com/redexpert/spec/860040675008?ad; Mount: Through Hole; Min Operating Temperature: -40 °C; Max Operating Temperature: 105 °C; Packaging: Ammo Pack; Height: 16 mm; Diameter: 10 mm; Capacitance: 220 µF
footprint WCAP-ATUL_D10H16
simulation model 860040675008_220uF
pins: 1 P, 2 N
text: +

## 860040675009
designator C?, comment 270 µF
WCAP-ATUL Aluminum Electrolytic Capacitor, Radial, THT, D10 x H20 mm, 270 µF, 50 V; Manufacturer Part Number: 860040675009; Manufacturer: Wurth Elektronik; Capacitance Tolerance: 20%; Dissipation Factor: 10%; Endurance: 7000 h; Leakage Current: 135 µA; Rated Voltage (DC): 50 V; Ripple Current: 1350 mA; Category: Aluminum Electrolytic Capacitors; Match Code: WCAP-ATUL; ComponentLink1Description: Website Link; ComponentLink1URL: https://www.we-online.com/redexpert/article/860040675009?ad; ComponentLink2Description: Datasheet Link; ComponentLink2URL: https://www.we-online.com/redexpert/spec/860040675009?ad; Mount: Through Hole; Min Operating Temperature: -40 °C; Max Operating Temperature: 105 °C; Packaging: Ammo Pack; Height: 20 mm; Diameter: 10 mm; Capacitance: 270 µF
footprint WCAP-ATUL_D10H20
simulation model 860040675009_270uF
pins: 1 P, 2 N
text: +

## 860040675010
designator C?, comment 330 µF
WCAP-ATUL Aluminum Electrolytic Capacitor, Radial, THT, D10 x H25 mm, 330 µF, 50 V; Manufacturer Part Number: 860040675010; Manufacturer: Wurth Elektronik; Capacitance Tolerance: 20%; Dissipation Factor: 10%; Endurance: 7000 h; Leakage Current: 165 µA; Rated Voltage (DC): 50 V; Ripple Current: 1600 mA; Category: Aluminum Electrolytic Capacitors; Match Code: WCAP-ATUL; ComponentLink1Description: Website Link; ComponentLink1URL: https://www.we-online.com/redexpert/article/860040675010?ad; ComponentLink2Description: Datasheet Link; ComponentLink2URL: https://www.we-online.com/redexpert/spec/860040675010?ad; Mount: Through Hole; Min Operating Temperature: -40 °C; Max Operating Temperature: 105 °C; Packaging: Ammo Pack; Height: 25 mm; Diameter: 10 mm; Capacitance: 330 µF
footprint WCAP-ATUL_D10H25
simulation model 860040675010_330uF
pins: 1 P, 2 N
text: +

## 860040675011
designator C?, comment 470 µF
WCAP-ATUL Aluminum Electrolytic Capacitor, Radial, THT, D10 x H30 mm, 470 µF, 50 V; Manufacturer Part Number: 860040675011; Manufacturer: Wurth Elektronik; Capacitance Tolerance: 20%; Dissipation Factor: 10%; Endurance: 7000 h; Leakage Current: 235 µA; Rated Voltage (DC): 50 V; Ripple Current: 1800 mA; Category: Aluminum Electrolytic Capacitors; Match Code: WCAP-ATUL; ComponentLink1Description: Website Link; ComponentLink1URL: https://www.we-online.com/redexpert/article/860040675011?ad; ComponentLink2Description: Datasheet Link; ComponentLink2URL: https://www.we-online.com/redexpert/spec/860040675011?ad; Mount: Through Hole; Min Operating Temperature: -40 °C; Max Operating Temperature: 105 °C; Packaging: Ammo Pack; Height: 30 mm; Diameter: 10 mm; Capacitance: 470 µF
footprint WCAP-ATUL_D10H30
simulation model 860040675011_470uF
pins: 1 P, 2 N
text: +

## 860040678012
designator C?, comment 560 µF
WCAP-ATUL Aluminum Electrolytic Capacitor, Radial, THT, D13 x H25 mm, 560 µF, 50 V; Manufacturer Part Number: 860040678012; Manufacturer: Wurth Elektronik; Capacitance Tolerance: 20%; Dissipation Factor: 10%; Endurance: 10000 h; Leakage Current: 280 µA; Rated Voltage (DC): 50 V; Ripple Current: 1950 mA; Category: Aluminum Electrolytic Capacitors; Match Code: WCAP-ATUL; ComponentLink1Description: Website Link; ComponentLink1URL: https://www.we-online.com/redexpert/article/860040678012?ad; ComponentLink2Description: Datasheet Link; ComponentLink2URL: https://www.we-online.com/redexpert/spec/860040678012?ad; Mount: Through Hole; Min Operating Temperature: -40 °C; Max Operating Temperature: 105 °C; Packaging: Ammo Pack; Height: 25 mm; Diameter: 13 mm; Capacitance: 560 µF
footprint WCAP-ATUL_D13H25
simulation model 860040678012_560uF
pins: 1 P, 2 N
text: +

## 860040680013
designator C?, comment 1200 µF
WCAP-ATUL Aluminum Electrolytic Capacitor, Radial, THT, D16 x H31.5 mm, 1200 µF, 50 V; Manufacturer Part Number: 860040680013; Manufacturer: Wurth Elektronik; Capacitance Tolerance: 20%; Dissipation Factor: 10%; Endurance: 10000 h; Leakage Current: 600 µA; Rated Voltage (DC): 50 V; Ripple Current: 2870 mA; Category: Aluminum Electrolytic Capacitors; Match Code: WCAP-ATUL; ComponentLink1Description: Website Link; ComponentLink1URL: https://www.we-online.com/redexpert/article/860040680013?ad; ComponentLink2Description: Datasheet Link; ComponentLink2URL: https://www.we-online.com/redexpert/spec/860040680013?ad; Mount: Through Hole; Min Operating Temperature: -40 °C; Max Operating Temperature: 105 °C; Packaging: Ammo Pack; Height: 31.5 mm; Diameter: 16 mm; Capacitance: 1200 µF
footprint WCAP-ATUL_D16H31.5
simulation model 860040680013_1.2mF
pins: 1 P, 2 N
text: +

## 860040773001
designator C?, comment 33 µF
WCAP-ATUL Aluminum Electrolytic Capacitor, Radial, THT, D6.3 x H11 mm, 33 µF, 63 V; Manufacturer Part Number: 860040773001; Manufacturer: Wurth Elektronik; Capacitance Tolerance: 20%; Dissipation Factor: 9%; Endurance: 5000 h; Leakage Current: 20.79 µA; Rated Voltage (DC): 63 V; Ripple Current: 260 mA; Category: Aluminum Electrolytic Capacitors; Match Code: WCAP-ATUL; ComponentLink1Description: Website Link; ComponentLink1URL: https://www.we-online.com/redexpert/article/860040773001?ad; ComponentLink2Description: Datasheet Link; ComponentLink2URL: https://www.we-online.com/redexpert/spec/860040773001?ad; Mount: Through Hole; Min Operating Temperature: -40 °C; Max Operating Temperature: 105 °C; Packaging: Ammo Pack; Height: 11 mm; Diameter: 6.3 mm; Capacitance: 33 µF
footprint WCAP-ATUL_D6.3H11
simulation model 860040773001_33uF
pins: 1 P, 2 N
text: +

## 860040774002
designator C?, comment 47 µF
WCAP-ATUL Aluminum Electrolytic Capacitor, Radial, THT, D8 x H11.5 mm, 47 µF, 63 V; Manufacturer Part Number: 860040774002; Manufacturer: Wurth Elektronik; Capacitance Tolerance: 20%; Dissipation Factor: 9%; Endurance: 7000 h; Leakage Current: 29.61 µA; Rated Voltage (DC): 63 V; Ripple Current: 360 mA; Category: Aluminum Electrolytic Capacitors; Match Code: WCAP-ATUL; ComponentLink1Description: Website Link; ComponentLink1URL: https://www.we-online.com/redexpert/article/860040774002?ad; ComponentLink2Description: Datasheet Link; ComponentLink2URL: https://www.we-online.com/redexpert/spec/860040774002?ad; Mount: Through Hole; Min Operating Temperature: -40 °C; Max Operating Temperature: 105 °C; Packaging: Ammo Pack; Height: 11.5 mm; Diameter: 8 mm; Capacitance: 47 µF
footprint WCAP-ATUL_D8H11.5
simulation model 860040774002_47uF
pins: 1 P, 2 N
text: +

## 860040774003
designator C?, comment 56 µF
WCAP-ATUL Aluminum Electrolytic Capacitor, Radial, THT, D8 x H11.5 mm, 56 µF, 63 V; Manufacturer Part Number: 860040774003; Manufacturer: Wurth Elektronik; Capacitance Tolerance: 20%; Dissipation Factor: 9%; Endurance: 7000 h; Leakage Current: 35.28 µA; Rated Voltage (DC): 63 V; Ripple Current: 380 mA; Category: Aluminum Electrolytic Capacitors; Match Code: WCAP-ATUL; ComponentLink1Description: Website Link; ComponentLink1URL: https://www.we-online.com/redexpert/article/860040774003?ad; ComponentLink2Description: Datasheet Link; ComponentLink2URL: https://www.we-online.com/redexpert/spec/860040774003?ad; Mount: Through Hole; Min Operating Temperature: -40 °C; Max Operating Temperature: 105 °C; Packaging: Ammo Pack; Height: 11.5 mm; Diameter: 8 mm; Capacitance: 56 µF
footprint WCAP-ATUL_D8H11.5
simulation model 860040774003_56uF
pins: 1 P, 2 N
text: +

## 860040774004
designator C?, comment 82 µF
WCAP-ATUL Aluminum Electrolytic Capacitor, Radial, THT, D8 x H16 mm, 82 µF, 63 V; Manufacturer Part Number: 860040774004; Manufacturer: Wurth Elektronik; Capacitance Tolerance: 20%; Dissipation Factor: 9%; Endurance: 7000 h; Leakage Current: 51.66 µA; Rated Voltage (DC): 63 V; Ripple Current: 460 mA; Category: Aluminum Electrolytic Capacitors; Match Code: WCAP-ATUL; ComponentLink1Description: Website Link; ComponentLink1URL: https://www.we-online.com/redexpert/article/860040774004?ad; ComponentLink2Description: Datasheet Link; ComponentLink2URL: https://www.we-online.com/redexpert/spec/860040774004?ad; Mount: Through Hole; Min Operating Temperature: -40 °C; Max Operating Temperature: 105 °C; Packaging: Ammo Pack; Height: 16 mm; Diameter: 8 mm; Capacitance: 82 µF
footprint WCAP-ATUL_D8H16
simulation model 860040774004_82uF
pins: 1 P, 2 N
text: +

## 860040774007
designator C?, comment 120 µF
WCAP-ATUL Aluminum Electrolytic Capacitor, Radial, THT, D8 x H20 mm, 120 µF, 63 V; Manufacturer Part Number: 860040774007; Manufacturer: Wurth Elektronik; Capacitance Tolerance: 20%; Dissipation Factor: 9%; Endurance: 7000 h; Leakage Current: 75.6 µA; Rated Voltage (DC): 63 V; Ripple Current: 700 mA; Category: Aluminum Electrolytic Capacitors; Match Code: WCAP-ATUL; ComponentLink1Description: Website Link; ComponentLink1URL: https://www.we-online.com/redexpert/article/860040774007?ad; ComponentLink2Description: Datasheet Link; ComponentLink2URL: https://www.we-online.com/redexpert/spec/860040774007?ad; Mount: Through Hole; Min Operating Temperature: -40 °C; Max Operating Temperature: 105 °C; Packaging: Ammo Pack; Height: 20 mm; Diameter: 8 mm; Capacitance: 120 µF
footprint WCAP-ATUL_D8H20
simulation model 860040774007_120uF
pins: 1 P, 2 N
text: +

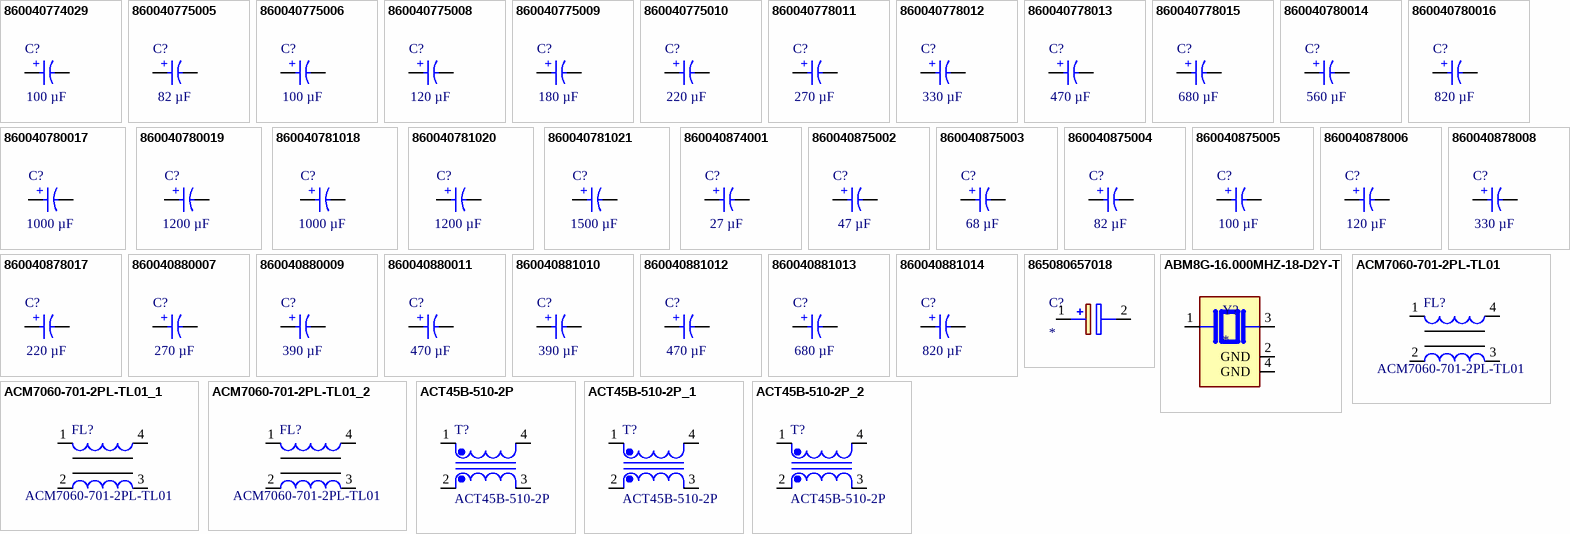
[diagram p3: symbols 860040774029 to ACT45B-510-2P_2]